# Altium footprint library CON FLE-104.PcbLib: 1 footprints
Each footprint in its own frame and in the unit in brackets; x right, y up, seen from the top. Pads: shape width x height; smd on the part's side, far side on the other; paste and mask are expansions set on the pad; w line width, h text height; cw(c..) or ccw(c..) is an arc to the next point about the centre after c.
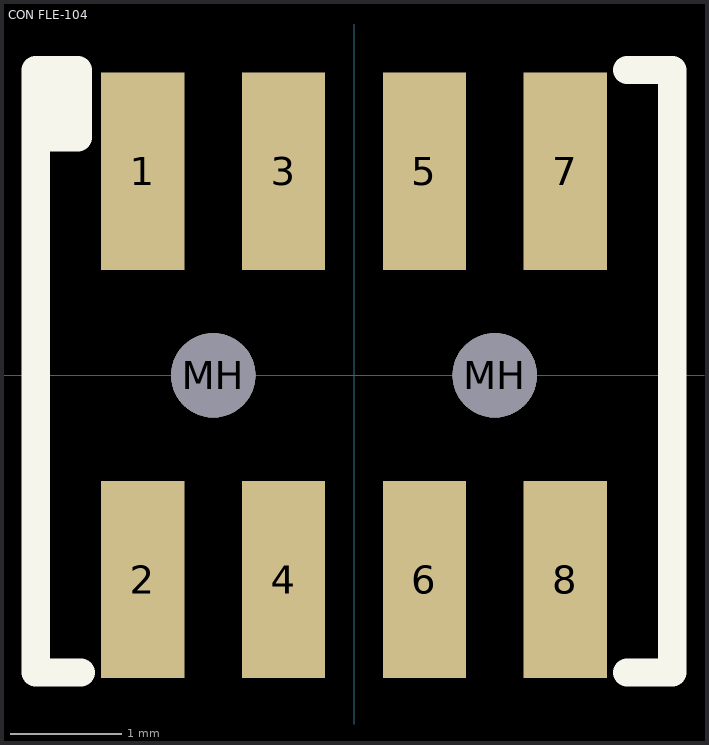
[diagram p0: the footprint, top view; thin cyan lines are the x and y axes]

## CON FLE-104 [mil] "Samtec FLE-104 Surface Mount Connector"
height 78.74
pads (10):
  rect 29.53x70 smd: 1(-75,72.5) 2(-75,-72.5) 3(-25,72.5) 4(-25,-72.5) 5(25,72.5) 6(25,-72.5) 7(75,72.5) 8(75,-72.5)
  round 30 hole 30 unplated: MH(-50,0) MH(50,0)
TopOverlay:
  lines w10: -105,102.5 -105,92.5 -113,84.5 -98,84.5 -98,108.5 -113,108.5 -113,-105.5 -97,-105.5 ; 97,-105.5 113,-105.5 113,108.5 97,108.5
3D body: height 179.6, standoff 0.6, extent -102.25,-90 102.25,91